# Altium footprint library Trans_Infineon_IRLML2402TRPBF_eec_MFG.PcbLib: 1 footprints
Each footprint in its own frame and in the unit in brackets; x right, y up, seen from the top. Pads: shape width x height; smd on the part's side, far side on the other; paste and mask are expansions set on the pad; w line width, h text height; cw(c..) or ccw(c..) is an arc to the next point about the centre after c.
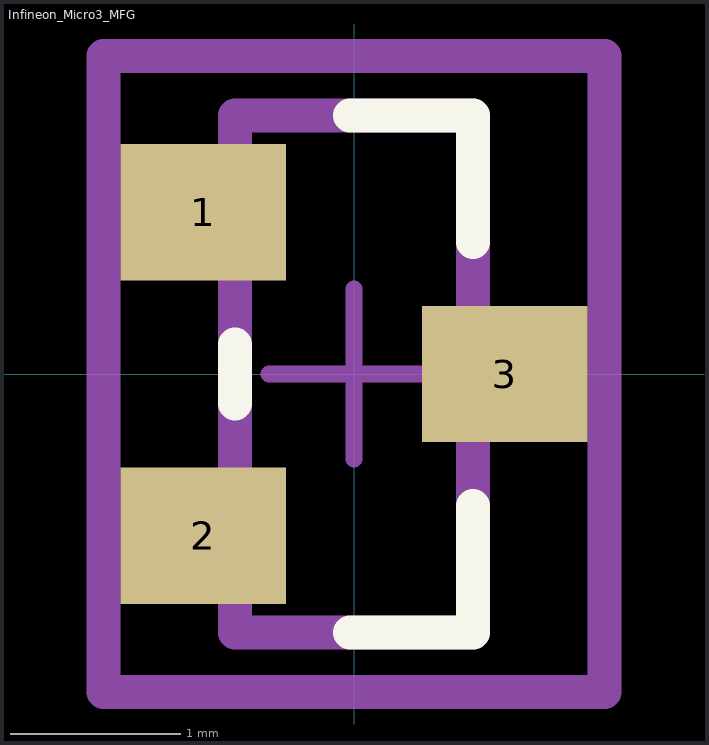
[diagram p0: the footprint, top view; thin cyan lines are the x and y axes]

## Infineon_Micro3_MFG [mm]
pads (3):
  rect 0.972x0.802 smd paste+0 mask+0: 1(-0.885,0.95) 2(-0.885,-0.95) 3(0.885,0)
Top Overlay:
  lines w0.2: -0.7,-0.174 -0.7,0.174 ; -0.024,-1.52 0.7,-1.52 0.7,-0.776 ; -0.024,1.52 0.7,1.52 0.7,0.776
Mechanical 10:
  lines w0.2: -1.471,-1.87 1.471,-1.87 1.471,1.87 -1.471,1.87 -1.471,-1.87
  text ".Designator" at 0,0 h1
Mechanical 12:
  lines w0.2: -0.7,-1.52 0.7,-1.52 0.7,1.52 -0.7,1.52 -0.7,-1.52
Mechanical 15:
  lines w0.1: -0.5,0 0.5,0 ; 0,-0.5 0,0.5
  lines w0.2: -1.471,-1.87 1.471,-1.87 1.471,1.87 -1.471,1.87 -1.471,-1.87
3D body "Trans_Infineon_IRLML2402TRPBF_eec.STEP": height 0.25, standoff 0, extent -1.471,-1.87 1.471,1.87